# EAGLE library part CHB100W (library Minero)
CHB100W DC-DC Converter
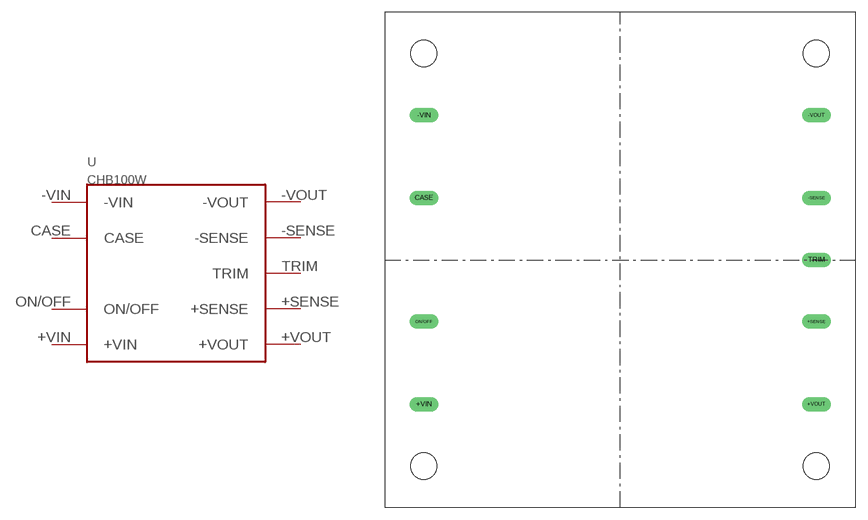
[diagram p3: symbol with the pads of CHB; footprint CHB]

Designator prefix -

## CHB100W  [CHB]
+SENSE  +SENSE
+VIN  +VIN  in
+VOUT  +VOUT  out
-SENSE  -SENSE
-VIN  -VIN  in
-VOUT  -VOUT  out
CASE  CASE
ON/OFF  ON/OFF
TRIM  TRIM

## Footprint CHB (pad centres in mm)
drill 1.1 pad 1.778 long: +SENSE 53.086,22.86; +VIN 4.826,12.7; +VOUT 53.086,12.7; -SENSE 53.086,38.1; -VIN 4.826,48.26; -VOUT 53.086,48.26; CASE 4.826,38.1; ON/OFF 4.826,22.86; TRIM 53.086,30.48
hole 3.2 at 4.826,5.08
hole 3.2 at 4.826,55.88
hole 3.2 at 53.086,55.88
hole 3.2 at 53.086,5.08